# Altium schematic symbol library UBCSolar_V3_BMS-Master.SchLib: 11 symbols
Pins are listed as number, name and electrical type; pins without a type are passive.

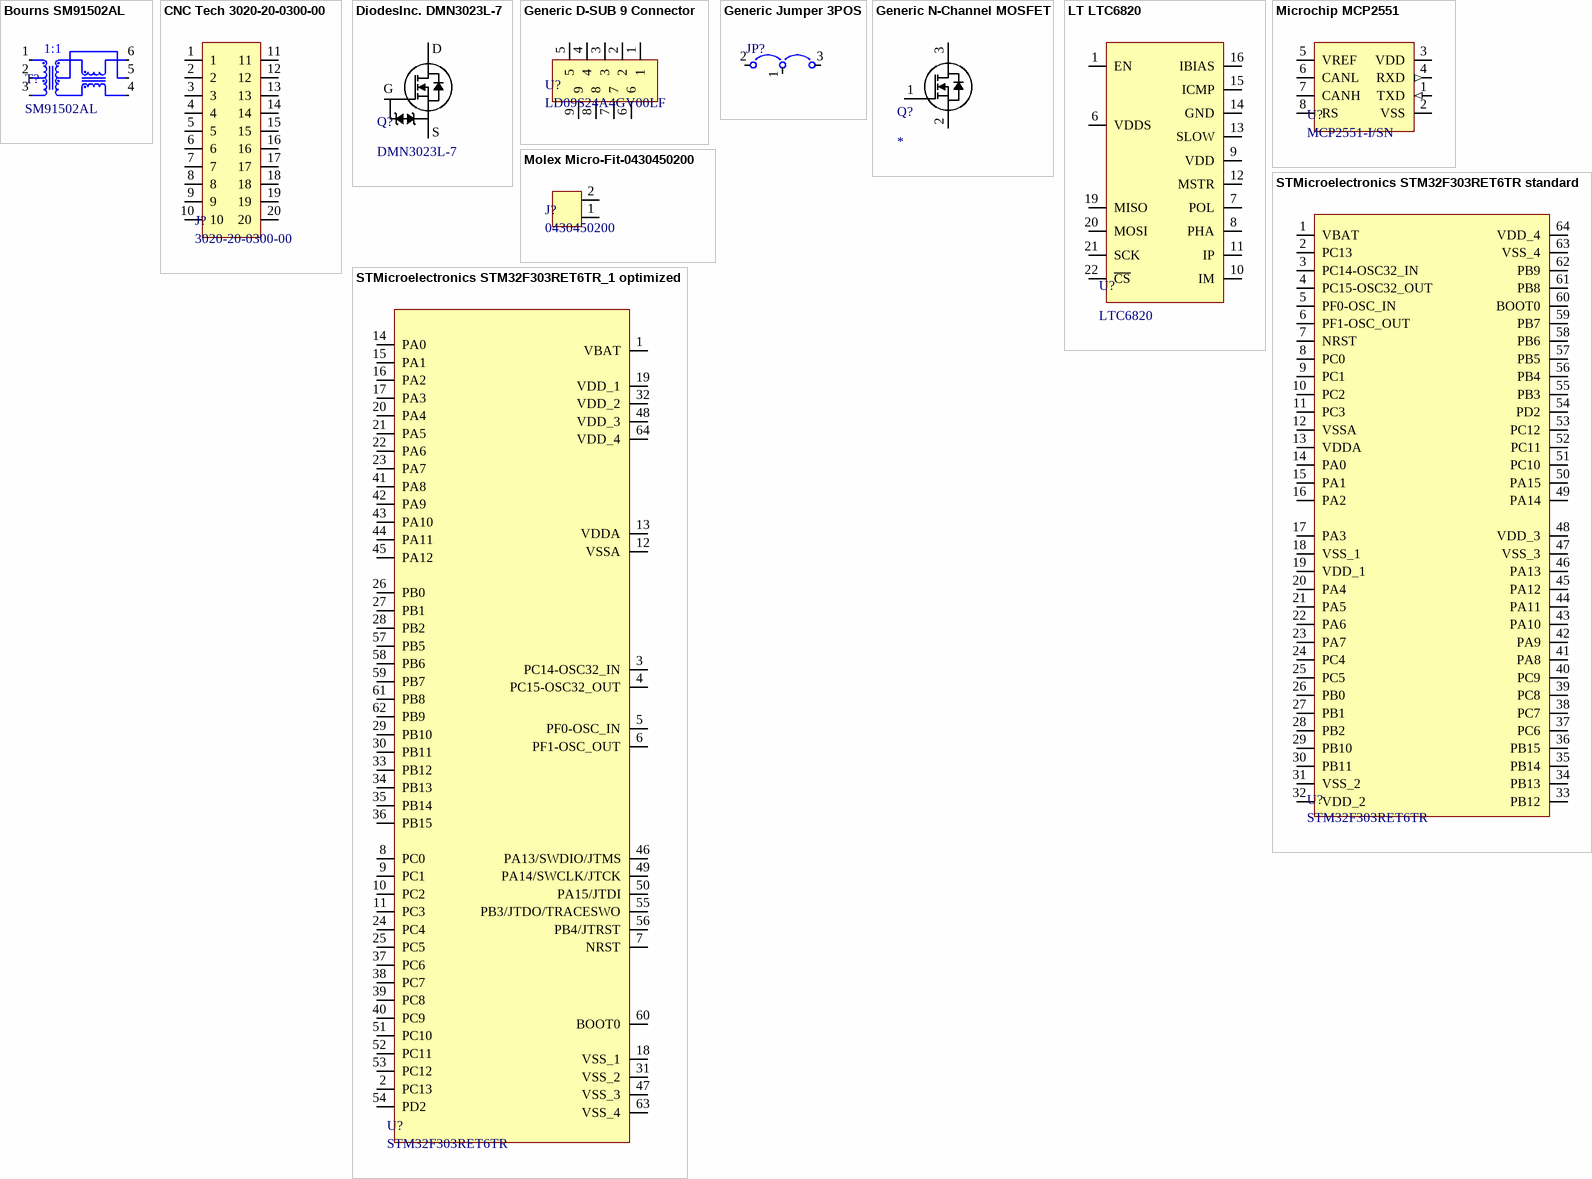
[diagram p0: symbols Bourns SM91502AL to STMicroelectronics STM32F303RET6TR_1 optimized]

## Bourns SM91502AL
designator T?, comment SM91502AL
150µH  Pulse Transformer 1CT:1CT Surface Mount; Supplier 1: Digikey; Supplier 1 Part Number: SM91502ALECT-ND
pins: 1, 2, 3, 4, 5, 6
text: 1:1

## CNC Tech 3020-20-0300-00
designator J?, comment 3020-20-0300-00
Supplier 1: Digikey; Supplier 1 Part Number: 1175-1623-ND
pins: 1, 2, 3, 4, 5, 6, 7, 8, 9, 10, 11, 12, 13, 14, 15, 16, 17, 18, 19, 20

## DiodesInc. DMN3023L-7
designator Q?, comment DMN3023L-7
N-Channel 30V 6.2A (Ta) 900mW (Ta) Surface Mount SOT-23; Supplier 1: Digikey; Supplier 1 Part Number: DMN3023L-7DICT-ND; ComponentLink1Description: Digikey; ComponentLink1URL: https://www.digikey.ca/product-detail/en/diodes-incorporated/DMN3023L-7/DMN3023L-7DICT-ND/5453155
pins: 1, 2, 3
text: D; G; S

## Generic D-SUB 9 Connector
designator U?, comment LD09S24A4GV00LF
9 Position D-Sub Receptacle, Female Sockets Connector; ComponentLink1Description: Digikey; ComponentLink1URL: https://www.digikey.ca/product-detail/en/amphenol-icc-fci/LD09S24A4GV00LF/609-5190-ND/4997292; Supplier 1 Part Number: 609-5190-ND; Supplier 1: Digikey
pins: 1, 2, 3, 4, 5, 6, 7, 8, 9 "CONN D-SUB RCPT 9POS VERT SOLDER"

## Generic Jumper 3POS
designator JP?  (value not drawn)
Connector Header Through Hole 3 position 0.100" (2.54mm); Supplier 1: Digikey; Supplier 1 Part Number: A26545-ND; ComponentLink1Description: Digikey; ComponentLink1URL: https://www.digikey.ca/product-detail/en/te-connectivity-amp/87224-3/A26545-ND/290802?utm_adgroup=&utm_source=google&utm_medium=cpc&utm_campaign=Shopping_Connectors%2C%20Interconnects&utm_term=&productid=290802&gclid=Cj0KCQiAgebwBRDnARIsAE3eZjTuL8WvZd2oySM8EN6lUFsRGiGnwogkufgTSY6DVcbL_nZ1_Snz4GIaAn-oEALw_wcB
pins: 1, 2, 3

## Generic N-Channel MOSFET
designator Q?
pins: 1, 2, 3

## LT LTC6820
designator U?, comment LTC6820
Isolated Communications Interface Interface 16-MSOP; Supplier 1: Digikey; Supplier Part Number 1: LTC6820IMS#TRPBFCT-ND\
pins: 1 EN, 6 VDDS, 7 POL, 8 PHA, 9 VDD, 10 IM, 11 IP, 12 MSTR, 13 SLOW, 14 GND, 15 ICMP, 16 IBIAS, 19 MISO, 20 MOSI, 21 SCK, 22 ~{CS}

## Microchip MCP2551
designator U?, comment MCP2551-I/SN
1/1 Transceiver Half CANbus 8-SOIC; ComponentLink1Description: Digikey; ComponentLink1URL: https://www.digikey.ca/product-detail/en/microchip-technology/MCP2551-I-SN/MCP2551-I-SN-ND/509452; Supplier 1: Digikey; Supplier Part Number 1: MCP2551-I/SN-ND
pins: 1 TXD (in), 2 VSS, 3 VDD, 4 RXD (out), 5 VREF, 6 CANL (io), 7 CANH (io), 8 RS

## Molex Micro-Fit-0430450200
designator J?, comment 0430450200
Connector Header Through Hole, Right Angle 2 position; ComponentLink1Description: Digikey; ComponentLink1URL: https://www.digikey.ca/product-detail/en/0430450200/WM1813-ND/252526/?itemSeq=291244174
pins: 1, 2

## STMicroelectronics STM32F303RET6TR standard
designator U?, comment STM32F303RET6TR
ARM® Cortex®-M4 STM32F3 Microcontroller IC 32-Bit 72MHz 512KB (512K x 8) FLASH 64-LQFP (10x10) Standard 64 pin format; Supplier 1: Digikey; ComponentLink1Description: Digikey; ComponentLink1URL: https://www.digikey.ca/product-detail/en/stmicroelectronics/STM32F303RET6TR/497-18778-1-ND/9958439; Supplier 1 Part Number: 497-18778-1-ND
pins: 1 VBAT, 2 PC13, 3 PC14-OSC32_IN, 4 PC15-OSC32_OUT, 5 PF0-OSC_IN, 6 PF1-OSC_OUT, 7 NRST, 8 PC0, 9 PC1, 10 PC2, 11 PC3, 12 VSSA, 13 VDDA, 14 PA0, 15 PA1, 16 PA2, 17 PA3, 18 VSS_1, 19 VDD_1, 20 PA4, 21 PA5, 22 PA6, 23 PA7, 24 PC4, 25 PC5, 26 PB0, 27 PB1, 28 PB2, 29 PB10, 30 PB11, 31 VSS_2, 32 VDD_2, 33 PB12, 34 PB13, 35 PB14, 36 PB15, 37 PC6, 38 PC7, 39 PC8, 40 PC9, 41 PA8, 42 PA9, 43 PA10, 44 PA11, 45 PA12, 46 PA13, 47 VSS_3, 48 VDD_3, 49 PA14, 50 PA15, 51 PC10, 52 PC11, 53 PC12, 54 PD2, 55 PB3, 56 PB4, 57 PB5, 58 PB6, 59 PB7, 60 BOOT0, 61 PB8, 62 PB9, 63 VSS_4, 64 VDD_4

## STMicroelectronics STM32F303RET6TR_1 optimized
designator U?, comment STM32F303RET6TR
ARM® Cortex®-M4 STM32F3 Microcontroller IC 32-Bit 72MHz 512KB (512K x 8) FLASH 64-LQFP (10x10) (Optimized pin structuring for schematic wiring); Supplier 1: Digikey; ComponentLink1Description: Digikey; ComponentLink1URL: https://www.digikey.ca/product-detail/en/stmicroelectronics/STM32F303RET6TR/497-18778-1-ND/9958439; Supplier 1 Part Number: 497-18778-1-ND
pins: 1 VBAT, 2 PC13, 3 PC14-OSC32_IN, 4 PC15-OSC32_OUT, 5 PF0-OSC_IN, 6 PF1-OSC_OUT, 7 NRST, 8 PC0, 9 PC1, 10 PC2, 11 PC3, 12 VSSA, 13 VDDA, 14 PA0, 15 PA1, 16 PA2, 17 PA3, 18 VSS_1, 19 VDD_1, 20 PA4, 21 PA5, 22 PA6, 23 PA7, 24 PC4, 25 PC5, 26 PB0, 27 PB1, 28 PB2, 29 PB10, 30 PB11, 31 VSS_2, 32 VDD_2, 33 PB12, 34 PB13, 35 PB14, 36 PB15, 37 PC6, 38 PC7, 39 PC8, 40 PC9, 41 PA8, 42 PA9, 43 PA10, 44 PA11, 45 PA12, 46 PA13/SWDIO/JTMS, 47 VSS_3, 48 VDD_3, 49 PA14/SWCLK/JTCK, 50 PA15/JTDI, 51 PC10, 52 PC11, 53 PC12, 54 PD2, 55 PB3/JTDO/TRACESWO, 56 PB4/JTRST, 57 PB5, 58 PB6, 59 PB7, 60 BOOT0, 61 PB8, 62 PB9, 63 VSS_4, 64 VDD_4